# Altium integrated library Altera Cyclone IV GX update.IntLib: 117 symbols (part 26 of 38)
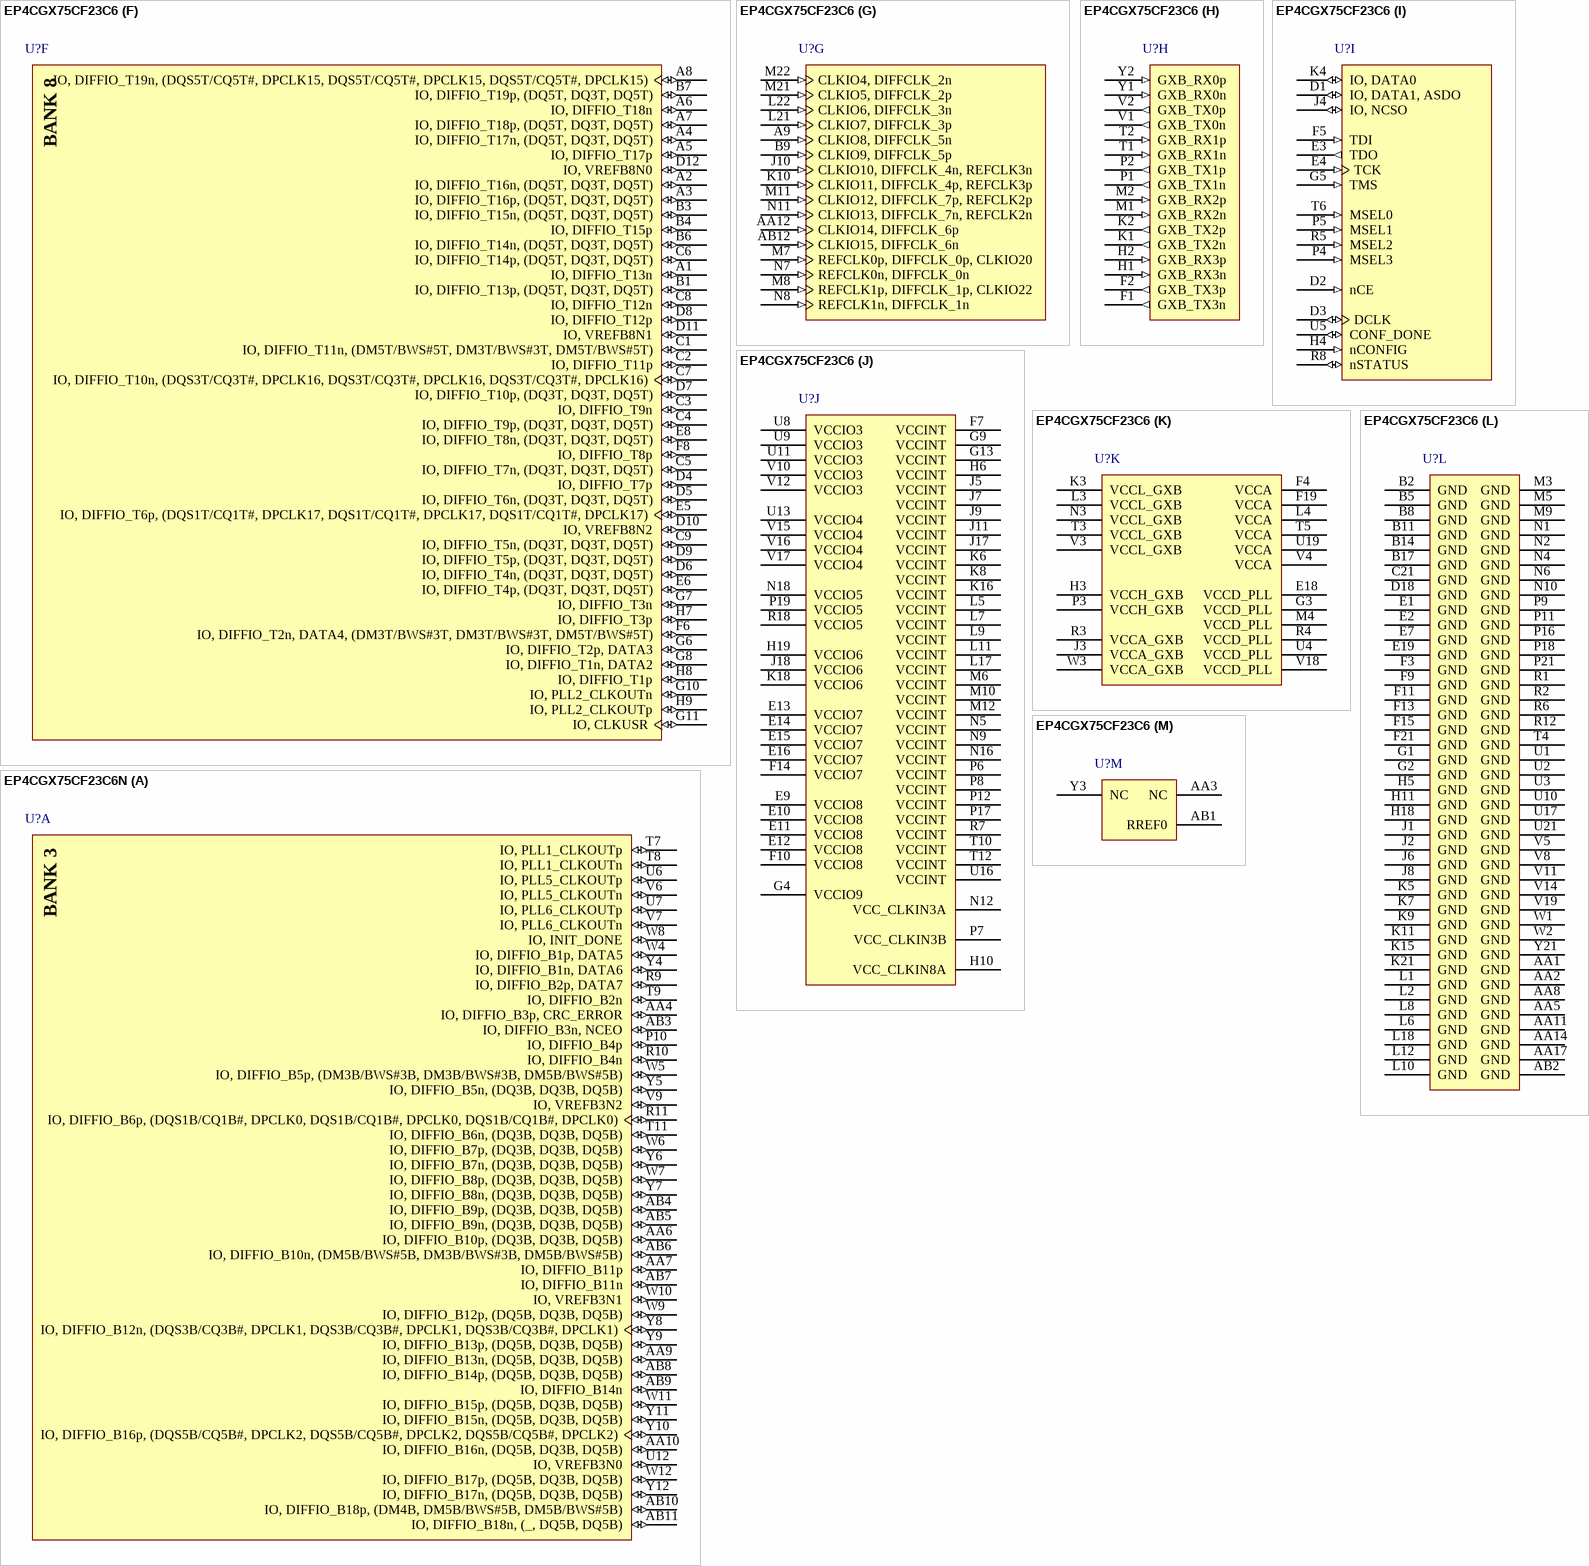
[diagram p264: symbols EP4CGX75CF23C6 to EP4CGX75CF23C6N]

## EP4CGX75CF23C6
designator U?
Cyclone IV Family FPGA, 1.2 V Core, 290 I/O Pins, 6 PLLs, 4 High-Speed Transceivers, 484-Pin FBGA, Speed Grade 6, Commercial Grade; Manufacturer: Altera; Device Group: EP4CGX75; GPIO: 290; Logic Elements (LE) (K): 73.92; NexusDeviceID: EP4CGX75CF23C6; Speed Grade: 6; DatasheetVersion: Rev. 1.8; PackageVersion: Rev. 2.0, 12/2012; PackageReference: FBGA484_A-240; PackageDescription: 484-Pin FineLine Ball-Grid Array (FBGA), Body 23 x 23 mm, Pitch 1 mm; Supplier 1: Digi-Key; Supplier Part Number 1: EP4CGX75CF23C6-ND; Supplier 2: Mouser; Supplier Part Number 2: 989-EP4CGX75CF23C6; Subcategory: Cyclone IV GX; Voltage Supply: 1.2 V Core; Mounting Technology: Surface Mount; Code_JEDEC: MS-034; PartNumber: EP4CGX75CF23C6; ComponentLink1Description: Manufacturer URL; ComponentLink1URL: http://www.altera.com/; ComponentLink2Description: Datasheet; ComponentLink2URL: http://www.altera.com/literature/hb/cyclone-iv/cyiv-53001.pdf; ComponentLink3Description: Package Specification; ComponentLink3URL: http://www.altera.com/devicepackaging/04R00416-03.pdf; ComponentLink4Description: Device Handbook URL; ComponentLink4URL: http://www.altera.com/literature/hb/cyclone-iv/cyclone4-handbook.pdf; ComponentLink5Description: Device Overview URL; ComponentLink5URL: http://www.altera.com/literature/hb/cyclone-iv/cyiv-51001.pdf; ComponentLink6Description: Device Pin-Out URL; ComponentLink6URL: http://www.altera.com/literature/dp/cyclone-iv/EP4CGX75.xls; ComponentLink7Description: Product URL; ComponentLink7URL: http://www.buyaltera.com/scripts/partsearch.dll?Detail&name=EP4CGX75CF23C6-ND
footprint ALTR-FBGA484_A-240 (BGA, 484-Balls, Body 23x23mm, Pitch 1mm)
part A pins: AA4 IO, DIFFIO_B3p, CRC_ERROR (io), AA6 IO, DIFFIO_B10p, (DQ3B, DQ3B, DQ5B) (io), AA7 IO, DIFFIO_B11p (io), AA9 IO, DIFFIO_B13n, (DQ5B, DQ3B, DQ5B) (io), AA10 IO, DIFFIO_B16n, (DQ5B, DQ3B, DQ5B) (io), AB3 IO, DIFFIO_B3n, NCEO (io), AB4 IO, DIFFIO_B9p, (DQ3B, DQ3B, DQ5B) (io), AB5 IO, DIFFIO_B9n, (DQ3B, DQ3B, DQ5B) (io), AB6 IO, DIFFIO_B10n, (DM5B/BWS#5B, DM3B/BWS#3B, DM5B/BWS#5B) (io), AB7 IO, DIFFIO_B11n (io), AB8 IO, DIFFIO_B14p, (DQ5B, DQ3B, DQ5B) (io), AB9 IO, DIFFIO_B14n (io), AB10 IO, DIFFIO_B18p, (DM4B, DM5B/BWS#5B, DM5B/BWS#5B) (io), AB11 IO, DIFFIO_B18n, (_, DQ5B, DQ5B) (io), P10 IO, DIFFIO_B4p (io), R9 IO, DIFFIO_B2p, DATA7 (io), R10 IO, DIFFIO_B4n (io), R11 IO, DIFFIO_B6p, (DQS1B/CQ1B#, DPCLK0, DQS1B/CQ1B#, DPCLK0, DQS1B/CQ1B#, DPCLK0) (io), T7 IO, PLL1_CLKOUTp (io), T8 IO, PLL1_CLKOUTn (io), T9 IO, DIFFIO_B2n (io), T11 IO, DIFFIO_B6n, (DQ3B, DQ3B, DQ5B) (io), U6 IO, PLL5_CLKOUTp (io), U7 IO, PLL6_CLKOUTp (io), U12 IO, VREFB3N0 (io), V6 IO, PLL5_CLKOUTn (io), V7 IO, PLL6_CLKOUTn (io), V9 IO, VREFB3N2 (io), W4 IO, DIFFIO_B1p, DATA5 (io), W5 IO, DIFFIO_B5p, (DM3B/BWS#3B, DM3B/BWS#3B, DM5B/BWS#5B) (io), W6 IO, DIFFIO_B7p, (DQ3B, DQ3B, DQ5B) (io), W7 IO, DIFFIO_B8p, (DQ3B, DQ3B, DQ5B) (io), W8 IO, INIT_DONE (io), W9 IO, DIFFIO_B12p, (DQ5B, DQ3B, DQ5B) (io), W10 IO, VREFB3N1 (io), W11 IO, DIFFIO_B15p, (DQ5B, DQ3B, DQ5B) (io), W12 IO, DIFFIO_B17p, (DQ5B, DQ3B, DQ5B) (io), Y4 IO, DIFFIO_B1n, DATA6 (io), Y5 IO, DIFFIO_B5n, (DQ3B, DQ3B, DQ5B) (io), Y6 IO, DIFFIO_B7n, (DQ3B, DQ3B, DQ5B) (io), Y7 IO, DIFFIO_B8n, (DQ3B, DQ3B, DQ5B) (io), Y8 IO, DIFFIO_B12n, (DQS3B/CQ3B#, DPCLK1, DQS3B/CQ3B#, DPCLK1, DQS3B/CQ3B#, DPCLK1) (io), Y9 IO, DIFFIO_B13p, (DQ5B, DQ3B, DQ5B) (io), Y10 IO, DIFFIO_B16p, (DQS5B/CQ5B#, DPCLK2, DQS5B/CQ5B#, DPCLK2, DQS5B/CQ5B#, DPCLK2) (io), Y11 IO, DIFFIO_B15n, (DQ5B, DQ3B, DQ5B) (io), Y12 IO, DIFFIO_B17n, (DQ5B, DQ3B, DQ5B) (io)
part B pins: AA13 IO, DIFFIO_B21p (io), AA15 IO, DIFFIO_B27p, (DQS2B/CQ3B, DPCLK4, DQS2B/CQ3B, DPCLK4, DQS2B/CQ3B, DPCLK4) (io), AA16 IO, DIFFIO_B28n, (DQ2B, DQ5B, DQ5B) (io), AA18 IO, DIFFIO_B31n, (DQ2B, DQ5B, DQ5B) (io), AA19 IO, DIFFIO_B33p (io), AA20 IO, DIFFIO_B34p (io), AA21 IO, DIFFIO_B35p (io), AA22 IO, PLL3_CLKOUTp (io), AB13 IO, DIFFIO_B21n (io), AB14 IO, DIFFIO_B22p, (DQ4B, DQ5B, DQ5B) (io), AB15 IO, DIFFIO_B22n, (DQ4B, DQ5B, DQ5B) (io), AB16 IO, DIFFIO_B27n (io), AB17 IO, DIFFIO_B29p (io), AB18 IO, DIFFIO_B29n, (DQ2B, DQ5B, DQ5B) (io), AB19 IO, DIFFIO_B33n (io), AB20 IO, DIFFIO_B34n, (DQS0B/CQ1B, DPCLK5, DQS0B/CQ1B, DPCLK5, DQS0B/CQ1B, DPCLK5) (io), AB21 IO, DIFFIO_B35n, (_, DQ5B, DQ5B) (io), AB22 IO, PLL3_CLKOUTn (io), R13 IO, DIFFIO_B19p, (DQ4B, DQ5B, DQ5B) (io), R14 IO, DIFFIO_B24p (io), R15 IO, DIFFIO_B32p (io), T13 IO, DIFFIO_B19n, (DQS4B/CQ5B, DPCLK3, DQS4B/CQ5B, DPCLK3, DQS4B/CQ5B, DPCLK3) (io), T14 IO, DIFFIO_B24n (io), T15 IO, DIFFIO_B32n (io), T16 IO, VREFB4N0 (io), U14 IO, DIFFIO_B26p (io), U15 IO, DIFFIO_B26n, (DQ2B, DQ5B, DQ5B) (io), V13 IO, VREFB4N2 (io), W13 IO, DIFFIO_B20p, (DQ4B, DQ5B, DQ5B) (io), W14 IO, DIFFIO_B23p, (DQ4B, DQ5B, DQ5B) (io), W15 IO, DIFFIO_B25p, (DQ4B, DQ5B, DQ5B) (io), W16 IO, VREFB4N1 (io), W17 IO, DIFFIO_B30p, (DQ2B, DQ5B, DQ5B) (io), W18 IO, DIFFIO_B36p (io), W19 IO, RUP2 (io), Y13 IO, DIFFIO_B20n, (DQ4B, DQ5B, DQ5B) (io), Y14 IO, DIFFIO_B23n, (DQ4B, DQ5B, DQ5B) (io), Y15 IO, DIFFIO_B25n, (DM2B, DM5B/BWS#5B, DM5B/BWS#5B) (io), Y16 IO, DIFFIO_B28p, (DQ2B, DQ5B, DQ5B) (io), Y17 IO, DIFFIO_B30n (io), Y18 IO, DIFFIO_B31p, (DQ2B, DQ5B, DQ5B) (io), Y19 IO, DIFFIO_B36n, (DQ2B, DQ5B, DQ5B) (io), Y20 IO, RDN2 (io)
part C pins: L13 IO, DIFFIO_R31n (io), L14 IO, DIFFIO_R34p (io), L15 IO, DIFFIO_R34n, (DQ1R, DQ3R, DQ1R) (io), L16 IO, DIFFIO_R27n (io), M13 IO, DIFFIO_R31p, (DQ1R, DQ3R, DQ1R) (io), M14 IO, DIFFIO_R35n (io), M15 IO, DIFFIO_R36n (io), M16 IO, DIFFIO_R27p (io), M17 IO, DIFFIO_R32n (io), M18 IO, DIFFIO_R26p, (DQ1R, DQ3R, DQ1R) (io), M19 IO, DIFFIO_R26n, (DQ1R, DQ3R, DQ1R) (io), M20 IO, VREFB5N0 (io), N13 IO, DIFFIO_R35p (io), N14 IO, DIFFIO_R36p (io), N15 IO, DIFFIO_R46n (io), N17 IO, DIFFIO_R32p, (DQ1R, DQ3R, DQ1R) (io), N19 IO, DIFFIO_R30p, (DQS1R/CQ1R#, DPCLK8, DQS1R/CQ1R#, DPCLK8, DQS1R/CQ1R#, DPCLK8) (io), N20 IO, DIFFIO_R30n (io), N21 IO, DIFFIO_R29p, (DQ1R, DQ3R, DQ1R) (io), N22 IO, DIFFIO_R29n, (DQ1R, DQ3R, DQ1R) (io), P13 IO, DIFFIO_R44p, DEV_CLRn (io), P14 IO, DIFFIO_R44n, DEV_OE (io), P15 IO, DIFFIO_R46p (io), P20 IO, VREFB5N1 (io), P22 IO, DIFFIO_R33n, (DQ1R, DQ3R, DQ1R) (io), R16 IO, DIFFIO_R49p, (DQS5R/CQ5R#, DPCLK6, DQS5R/CQ5R#, DPCLK6, DQS5R/CQ5R#, DPCLK6) (io), R17 IO, DIFFIO_R49n, (DM3R/BWS#3R, DM3R/BWS#3R, DM1R/BWS#1R) (io), R19 IO, DIFFIO_R41p, (DQ3R, DQ3R, DQ1R) (io), R20 IO, DIFFIO_R39p, (DM1R/BWS#1R, DM3R/BWS#3R, DM1R/BWS#1R) (io), R21 IO, DIFFIO_R39n (io), R22 IO, DIFFIO_R33p (io), T17 IO, RUP3 (io), T18 IO, RDN3 (io), T19 IO, DIFFIO_R42p (io), T20 IO, DIFFIO_R41n, (DQ3R, DQ3R, DQ1R) (io), T21 IO, DIFFIO_R38p, (DQ1R, DQ3R, DQ1R) (io), T22 IO, DIFFIO_R38n (io), U18 IO, VREFB5N2 (io), U20 IO, DIFFIO_R42n, (DQ3R, DQ3R, DQ1R) (io), U22 IO, DIFFIO_R40n (io), V20 IO, DIFFIO_R43p, (DQ3R, DQ3R, DQ1R) (io), V21 IO, DIFFIO_R43n, (DQ3R, DQ3R, DQ1R) (io), V22 IO, DIFFIO_R40p, (DQS3R/CQ3R#, DPCLK7, DQS3R/CQ3R#, DPCLK7, DQS3R/CQ3R#, DPCLK7) (io), W20 IO, DIFFIO_R45p, (DQ3R, DQ3R, DQ1R) (io), W21 IO, DIFFIO_R45n, (DQ3R, DQ3R, DQ1R) (io), W22 IO, DIFFIO_R47n, (DQ3R, DQ3R, DQ1R) (io), Y22 IO, DIFFIO_R47p, (DQ3R, DQ3R, DQ1R) (io)
part D pins: A20 IO, DIFFIO_R7n (io), A21 IO, DIFFIO_R11p, (DQ2R, DQ1R, DQ1R) (io), A22 IO, DIFFIO_R11n (io), B19 IO, DIFFIO_R7p, (DQ2R, DQ1R, DQ1R) (io), B20 IO, DIFFIO_R9p, (DQ2R, DQ1R, DQ1R) (io), B21 IO, DIFFIO_R9n, (DQS2R/CQ3R, DPCLK10, DQS2R/CQ3R, DPCLK10, DQS2R/CQ3R, DPCLK10) (io), B22 IO, DIFFIO_R12n (io), C19 IO, DIFFIO_R8p, (DQ2R, DQ1R, DQ1R) (io), C20 IO, DIFFIO_R8n (io), C22 IO, DIFFIO_R12p, (_, DQ1R, DQ1R) (io), D19 IO, DIFFIO_R10p, (DQ2R, DQ1R, DQ1R) (io), D20 IO, DIFFIO_R10n (io), D21 IO, DIFFIO_R14p, (DM2R, DM1R/BWS#1R, DM1R/BWS#1R) (io), D22 IO, DIFFIO_R14n (io), E20 IO, DIFFIO_R17n (io), E21 IO, DIFFIO_R15p, (_, DQ1R, DQ1R) (io), E22 IO, DIFFIO_R15n (io), F18 IO, DIFFIO_R1p, (DQ2R, DQ1R, DQ1R) (io), F20 IO, DIFFIO_R17p (io), F22 IO, DIFFIO_R16n, (DQ0R, DQ1R, DQ1R) (io), G16 IO, DIFFIO_R2p, (DQS4R/CQ5R, DPCLK11, DQS4R/CQ5R, DPCLK11, DQS4R/CQ5R, DPCLK11) (io), G17 IO, DIFFIO_R2n, (DQ2R, DQ1R, DQ1R) (io), G18 IO, VREFB6N0 (io), G19 IO, DIFFIO_R1n, (DQ2R, DQ1R, DQ1R) (io), G20 IO, DIFFIO_R18p, (DQ0R, DQ1R, DQ1R) (io), G21 IO, DIFFIO_R18n (io), G22 IO, DIFFIO_R16p (io), H15 IO, DIFFIO_R3p (io), H16 IO, DIFFIO_R3n (io), H17 IO, VREFB6N1 (io), H20 IO, DIFFIO_R19p, (DQ0R, DQ1R, DQ1R) (io), H21 IO, DIFFIO_R19n (io), H22 IO, DIFFIO_R22n, (DQS0R/CQ1R, DPCLK9, DQS0R/CQ1R, DPCLK9, DQS0R/CQ1R, DPCLK9) (io), J15 IO, VREFB6N2 (io), J16 IO, DIFFIO_R6p (io), J19 IO, DIFFIO_R23p, (DQ0R, DQ1R, DQ1R) (io), J20 IO, DIFFIO_R23n, (DQ0R, DQ1R, DQ1R) (io), J21 IO, DIFFIO_R22p (io), J22 IO, DIFFIO_R21n (io), K13 IO, DIFFIO_R4p (io), K14 IO, DIFFIO_R4n (io), K17 IO, DIFFIO_R6n (io), K19 IO, DIFFIO_R20p, (DQ0R, DQ1R, DQ1R) (io), K20 IO, DIFFIO_R20n (io), K22 IO, DIFFIO_R21p, (DQ0R, DQ1R, DQ1R) (io), L19 IO, DIFFIO_R25p, (DQ0R, DQ1R, DQ1R) (io), L20 IO, DIFFIO_R25n, (DM0R, DM1R/BWS#1R, DM1R/BWS#1R) (io)
part E pins: A10 IO, DIFFIO_T21n, (DQ4T, DQ5T, DQ5T) (io), A11 IO, DIFFIO_T22n, (DQ4T, DQ5T, DQ5T) (io), A12 IO, DIFFIO_T22p (io), A13 IO, DIFFIO_T30n (io), A14 IO, DIFFIO_T30p, (_, DQ5T, DQ5T) (io), A15 IO, DIFFIO_T32n, (DQ2T, DQ5T, DQ5T) (io), A16 IO, DIFFIO_T34n, (DQ2T, DQ5T, DQ5T) (io), A17 IO, DIFFIO_T34p (io), A18 IO, DIFFIO_T37n, (DQ2T, DQ5T, DQ5T) (io), A19 IO, DIFFIO_T37p, (DQ2T, DQ5T, DQ5T) (io), B10 IO, DIFFIO_T21p, (DQS4T/CQ5T, DPCLK14, DQS4T/CQ5T, DPCLK14, DQS4T/CQ5T, DPCLK14) (io), B12 IO, DIFFIO_T28n, (DQ4T, DQ5T, DQ5T) (io), B13 IO, DIFFIO_T28p, (DQ4T, DQ5T, DQ5T) (io), B15 IO, DIFFIO_T32p, (DQ2T, DQ5T, DQ5T) (io), B16 IO, DIFFIO_T35n, (DQS0T/CQ1T, DPCLK12, DQS0T/CQ1T, DPCLK12, DQS0T/CQ1T, DPCLK12) (io), B18 IO (io), C10 IO, DIFFIO_T24n, (DQ4T, DQ5T, DQ5T) (io), C11 IO, DIFFIO_T24p (io), C12 IO, DIFFIO_T29n, (DM2T, DM5T/BWS#5T, DM5T/BWS#5T) (io), C13 IO, DIFFIO_T29p (io), C14 IO, DIFFIO_T31n (io), C15 IO, DIFFIO_T33n, (DQ2T, DQ5T, DQ5T) (io), C16 IO, DIFFIO_T35p, (DQ2T, DQ5T, DQ5T) (io), C17 IO, PLL4_CLKOUTn (io), C18 IO, PLL4_CLKOUTp (io), D13 IO, VREFB7N1 (io), D14 IO, DIFFIO_T31p, (DQ2T, DQ5T, DQ5T) (io), D15 IO, DIFFIO_T33p (io), D16 IO, VREFB7N0 (io), D17 IO, DIFFIO_T36n (io), E17 IO, DIFFIO_T36p (io), F12 IO, VREFB7N2 (io), F16 IO, RUP4 (io), F17 IO, RDN4 (io), G12 IO, DIFFIO_T20n, (_, DQ5T, DQ5T) (io), G14 IO, DIFFIO_T27n (io), G15 IO, DIFFIO_T27p, (DQS2T/CQ3T, DPCLK13, DQS2T/CQ3T, DPCLK13, DQS2T/CQ3T, DPCLK13) (io), H12 IO, DIFFIO_T20p, (DM4T, DM5T/BWS#5T, DM5T/BWS#5T) (io), H13 IO, DIFFIO_T23n, (DQ4T, DQ5T, DQ5T) (io), H14 IO, DIFFIO_T26n (io), J12 IO, DIFFIO_T25n (io), J13 IO, DIFFIO_T23p, (DQ4T, DQ5T, DQ5T) (io), J14 IO, DIFFIO_T26p, (DQ4T, DQ5T, DQ5T) (io), K12 IO, DIFFIO_T25p (io)
part F pins: A1 IO, DIFFIO_T13n (io), A2 IO, DIFFIO_T16n, (DQ5T, DQ3T, DQ5T) (io), A3 IO, DIFFIO_T16p, (DQ5T, DQ3T, DQ5T) (io), A4 IO, DIFFIO_T17n, (DQ5T, DQ3T, DQ5T) (io), A5 IO, DIFFIO_T17p (io), A6 IO, DIFFIO_T18n (io), A7 IO, DIFFIO_T18p, (DQ5T, DQ3T, DQ5T) (io), A8 IO, DIFFIO_T19n, (DQS5T/CQ5T#, DPCLK15, DQS5T/CQ5T#, DPCLK15, DQS5T/CQ5T#, DPCLK15) (io), B1 IO, DIFFIO_T13p, (DQ5T, DQ3T, DQ5T) (io), B3 IO, DIFFIO_T15n, (DQ5T, DQ3T, DQ5T) (io), B4 IO, DIFFIO_T15p (io), B6 IO, DIFFIO_T14n, (DQ5T, DQ3T, DQ5T) (io), B7 IO, DIFFIO_T19p, (DQ5T, DQ3T, DQ5T) (io), C1 IO, DIFFIO_T11n, (DM5T/BWS#5T, DM3T/BWS#3T, DM5T/BWS#5T) (io), C2 IO, DIFFIO_T11p (io), C3 IO, DIFFIO_T9n (io), C4 IO, DIFFIO_T9p, (DQ3T, DQ3T, DQ5T) (io), C5 IO, DIFFIO_T7n, (DQ3T, DQ3T, DQ5T) (io), C6 IO, DIFFIO_T14p, (DQ5T, DQ3T, DQ5T) (io), C7 IO, DIFFIO_T10n, (DQS3T/CQ3T#, DPCLK16, DQS3T/CQ3T#, DPCLK16, DQS3T/CQ3T#, DPCLK16) (io), C8 IO, DIFFIO_T12n (io), C9 IO, DIFFIO_T5n, (DQ3T, DQ3T, DQ5T) (io), D4 IO, DIFFIO_T7p (io), D5 IO, DIFFIO_T6n, (DQ3T, DQ3T, DQ5T) (io), D6 IO, DIFFIO_T4n, (DQ3T, DQ3T, DQ5T) (io), D7 IO, DIFFIO_T10p, (DQ3T, DQ3T, DQ5T) (io), D8 IO, DIFFIO_T12p (io), D9 IO, DIFFIO_T5p, (DQ3T, DQ3T, DQ5T) (io), D10 IO, VREFB8N2 (io), D11 IO, VREFB8N1 (io), D12 IO, VREFB8N0 (io), E5 IO, DIFFIO_T6p, (DQS1T/CQ1T#, DPCLK17, DQS1T/CQ1T#, DPCLK17, DQS1T/CQ1T#, DPCLK17) (io), E6 IO, DIFFIO_T4p, (DQ3T, DQ3T, DQ5T) (io), E8 IO, DIFFIO_T8n, (DQ3T, DQ3T, DQ5T) (io), F6 IO, DIFFIO_T2n, DATA4, (DM3T/BWS#3T, DM3T/BWS#3T, DM5T/BWS#5T) (io), F8 IO, DIFFIO_T8p (io), G6 IO, DIFFIO_T2p, DATA3 (io), G7 IO, DIFFIO_T3n (io), G8 IO, DIFFIO_T1n, DATA2 (io), G10 IO, PLL2_CLKOUTn (io), G11 IO, CLKUSR (io), H7 IO, DIFFIO_T3p (io), H8 IO, DIFFIO_T1p (io), H9 IO, PLL2_CLKOUTp (io)
part G pins: A9 CLKIO8, DIFFCLK_5n (in), AA12 CLKIO14, DIFFCLK_6p (in), AB12 CLKIO15, DIFFCLK_6n (in), B9 CLKIO9, DIFFCLK_5p (in), J10 CLKIO10, DIFFCLK_4n, REFCLK3n (in), K10 CLKIO11, DIFFCLK_4p, REFCLK3p (in), L21 CLKIO7, DIFFCLK_3p (in), L22 CLKIO6, DIFFCLK_3n (in), M7 REFCLK0p, DIFFCLK_0p, CLKIO20 (in), M8 REFCLK1p, DIFFCLK_1p, CLKIO22 (in), M11 CLKIO12, DIFFCLK_7p, REFCLK2p (in), M21 CLKIO5, DIFFCLK_2p (in), M22 CLKIO4, DIFFCLK_2n (in), N7 REFCLK0n, DIFFCLK_0n (in), N8 REFCLK1n, DIFFCLK_1n (in), N11 CLKIO13, DIFFCLK_7n, REFCLK2n (in)
part H pins: F1 GXB_TX3n (out), F2 GXB_TX3p (out), H1 GXB_RX3n (in), H2 GXB_RX3p (in), K1 GXB_TX2n (out), K2 GXB_TX2p (out), M1 GXB_RX2n (in), M2 GXB_RX2p (in), P1 GXB_TX1n (out), P2 GXB_TX1p (out), T1 GXB_RX1n (in), T2 GXB_RX1p (in), V1 GXB_TX0n (out), V2 GXB_TX0p (out), Y1 GXB_RX0n (in), Y2 GXB_RX0p (in)
part I pins: D1 IO, DATA1, ASDO (io), D2 nCE (in), D3 DCLK (io), E3 TDO (out), E4 TCK (in), F5 TDI (in), G5 TMS (in), H4 nCONFIG (in), J4 IO, NCSO (io), K4 IO, DATA0 (io), P4 MSEL3 (in), P5 MSEL1 (in), R5 MSEL2 (in), R8 nSTATUS (io), T6 MSEL0 (in), U5 CONF_DONE (io)
part J pins: E9 VCCIO8 (power), E10 VCCIO8 (power), E11 VCCIO8 (power), E12 VCCIO8 (power), E13 VCCIO7 (power), E14 VCCIO7 (power), E15 VCCIO7 (power), E16 VCCIO7 (power), F7 VCCINT (power), F10 VCCIO8 (power), F14 VCCIO7 (power), G4 VCCIO9 (power), G9 VCCINT (power), G13 VCCINT (power), H6 VCCINT (power), H10 VCC_CLKIN8A (power), H19 VCCIO6 (power), J5 VCCINT (power), J7 VCCINT (power), J9 VCCINT (power), J11 VCCINT (power), J17 VCCINT (power), J18 VCCIO6 (power), K6 VCCINT (power), K8 VCCINT (power), K16 VCCINT (power), K18 VCCIO6 (power), L5 VCCINT (power), L7 VCCINT (power), L9 VCCINT (power), L11 VCCINT (power), L17 VCCINT (power), M6 VCCINT (power), M10 VCCINT (power), M12 VCCINT (power), N5 VCCINT (power), N9 VCCINT (power), N12 VCC_CLKIN3A (power), N16 VCCINT (power), N18 VCCIO5 (power), P6 VCCINT (power), P7 VCC_CLKIN3B (power), P8 VCCINT (power), P12 VCCINT (power), P17 VCCINT (power), P19 VCCIO5 (power), R7 VCCINT (power), R18 VCCIO5 (power), T10 VCCINT (power), T12 VCCINT (power), U8 VCCIO3 (power), U9 VCCIO3 (power), U11 VCCIO3 (power), U13 VCCIO4 (power), U16 VCCINT (power), V10 VCCIO3 (power), V12 VCCIO3 (power), V15 VCCIO4 (power), V16 VCCIO4 (power), V17 VCCIO4 (power)
part K pins: E18 VCCD_PLL (power), F4 VCCA (power), F19 VCCA (power), G3 VCCD_PLL (power), H3 VCCH_GXB (power), J3 VCCA_GXB (power), K3 VCCL_GXB (power), L3 VCCL_GXB (power), L4 VCCA (power), M4 VCCD_PLL (power), N3 VCCL_GXB (power), P3 VCCH_GXB (power), R3 VCCA_GXB (power), R4 VCCD_PLL (power), T3 VCCL_GXB (power), T5 VCCA (power), U4 VCCD_PLL (power), U19 VCCA (power), V3 VCCL_GXB (power), V4 VCCA (power), V18 VCCD_PLL (power), W3 VCCA_GXB (power)
part L pins: AA1 GND (power), AA2 GND (power), AA5 GND (power), AA8 GND (power), AA11 GND (power), AA14 GND (power), AA17 GND (power), AB2 GND (power), B2 GND (power), B5 GND (power), B8 GND (power), B11 GND (power), B14 GND (power), B17 GND (power), C21 GND (power), D18 GND (power), E1 GND (power), E2 GND (power), E7 GND (power), E19 GND (power), F3 GND (power), F9 GND (power), F11 GND (power), F13 GND (power), F15 GND (power), F21 GND (power), G1 GND (power), G2 GND (power), H5 GND (power), H11 GND (power), H18 GND (power), J1 GND (power), J2 GND (power), J6 GND (power), J8 GND (power), K5 GND (power), K7 GND (power), K9 GND (power), K11 GND (power), K15 GND (power), K21 GND (power), L1 GND (power), L2 GND (power), L6 GND (power), L8 GND (power), L10 GND (power), L12 GND (power), L18 GND (power), M3 GND (power), M5 GND (power), M9 GND (power), N1 GND (power), N2 GND (power), N4 GND (power), N6 GND (power), N10 GND (power), P9 GND (power), P11 GND (power), P16 GND (power), P18 GND (power), P21 GND (power), R1 GND (power), R2 GND (power), R6 GND (power), R12 GND (power), T4 GND (power), U1 GND (power), U2 GND (power), U3 GND (power), U10 GND (power), U17 GND (power), U21 GND (power), V5 GND (power), V8 GND (power), V11 GND (power), V14 GND (power), V19 GND (power), W1 GND (power), W2 GND (power), Y21 GND (power)
part M pins: AA3 NC, AB1 RREF0, Y3 NC
part A text: BANK 3
part B text: BANK 4
part C text: BANK 5
part D text: BANK 6
part E text: BANK 7
part F text: BANK 8

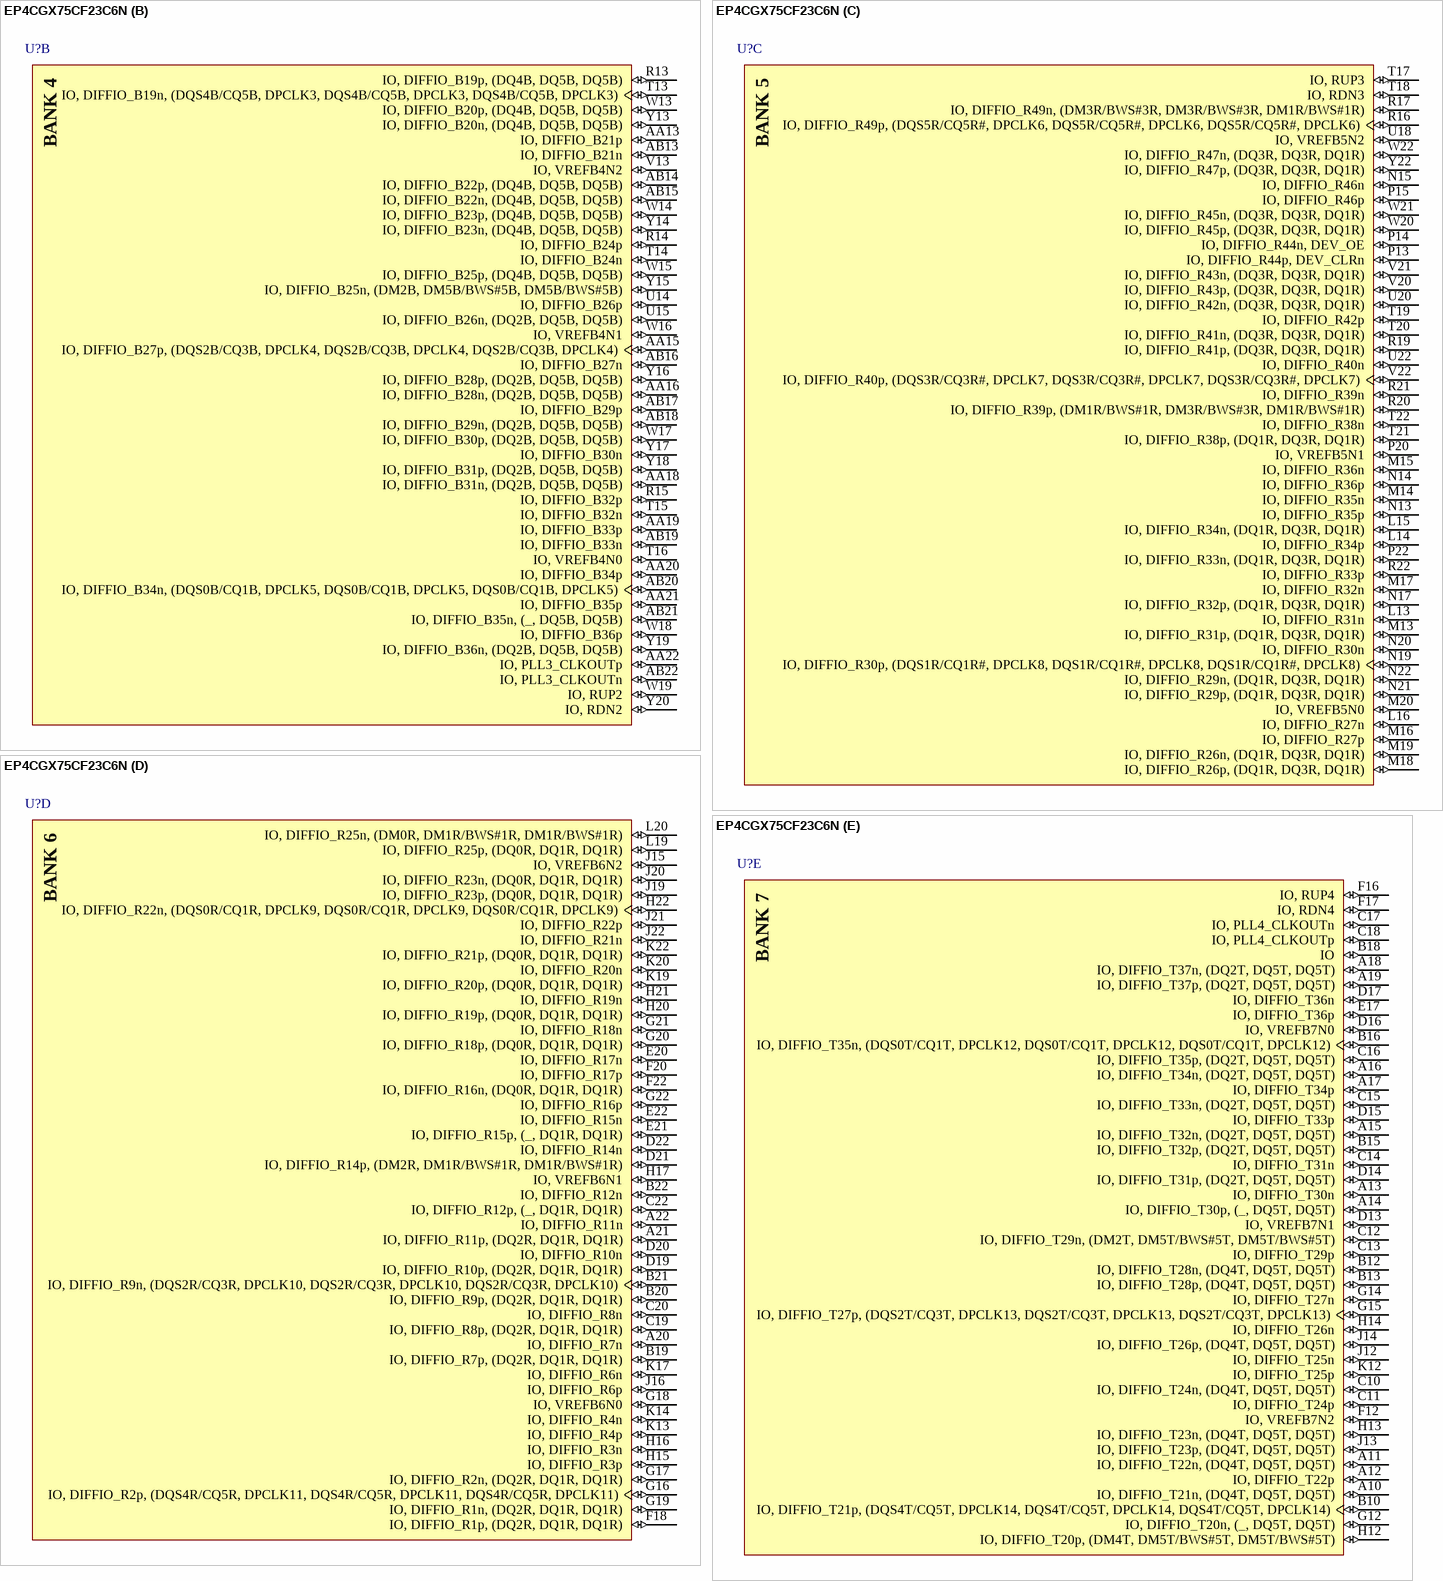
[diagram p95: symbol EP4CGX75CF23C6N]

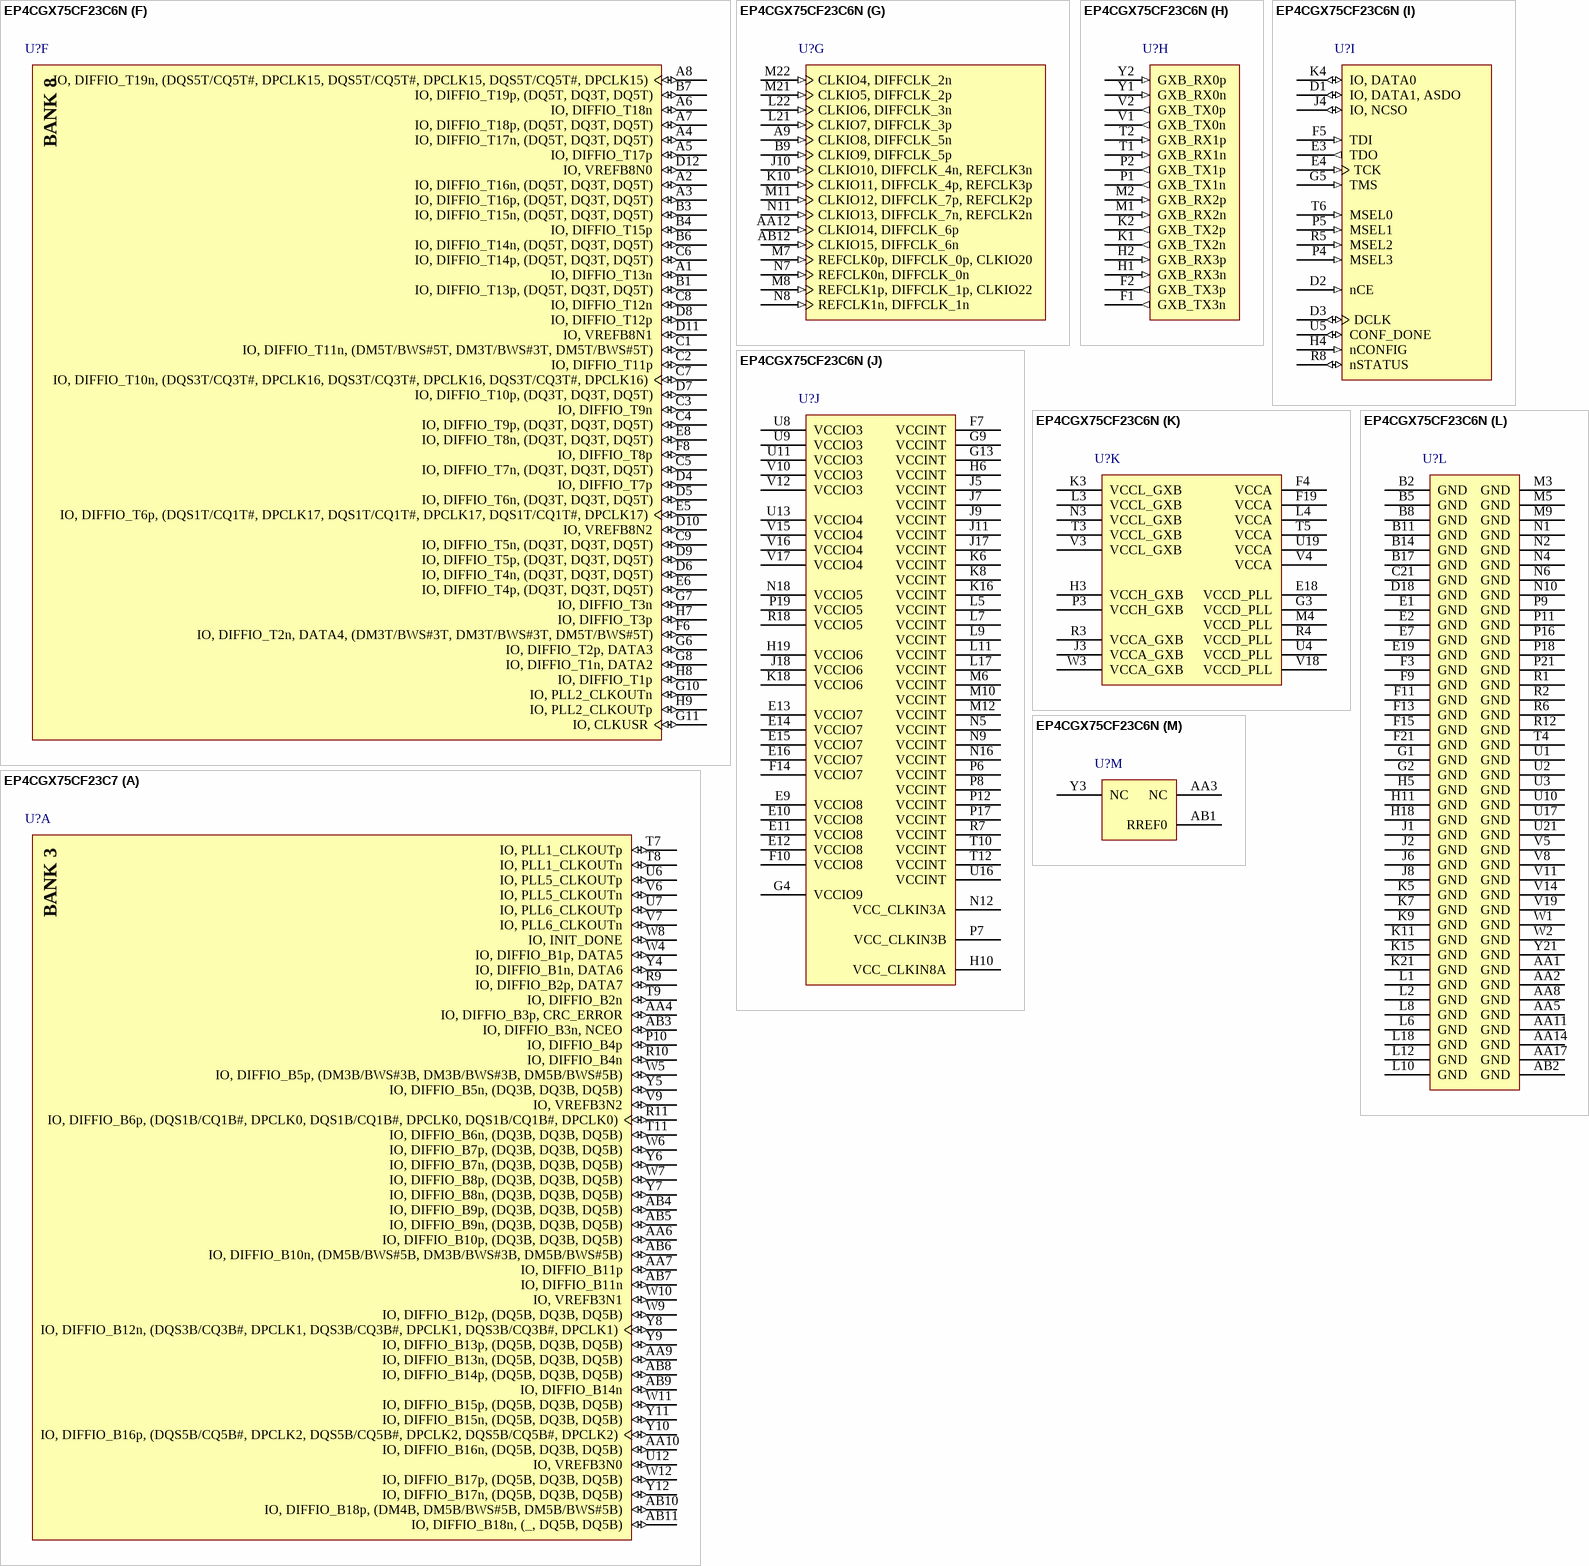
[diagram p96: symbols EP4CGX75CF23C6N to EP4CGX75CF23C7]

## EP4CGX75CF23C6N
designator U?
Cyclone IV Family FPGA, 1.2 V Core, 290 I/O Pins, 6 PLLs, 4 High-Speed Transceivers, 484-Pin FBGA, Speed Grade 6, Commercial Grade, Pb-Free; Manufacturer: Altera; Device Group: EP4CGX75; GPIO: 290; Logic Elements (LE) (K): 73.92; NexusDeviceID: EP4CGX75CF23C6N; Pb-Free: TRUE; Speed Grade: 6; DatasheetVersion: Rev. 1.8; PackageVersion: Rev. 2.0, 12/2012; PackageReference: FBGA484_A-240; PackageDescription: 484-Pin FineLine Ball-Grid Array (FBGA), Body 23 x 23 mm, Pitch 1 mm; Supplier 1: Digi-Key; Supplier Part Number 1: EP4CGX75CF23C6N-ND; Supplier 2: Farnell; Supplier Part Number 2: 2100879; Supplier 3: Mouser; Supplier Part Number 3: 989-EP4CGX75CF23C6N; RoHS: RoHS Compliant; Subcategory: Cyclone IV GX; Voltage Supply: 1.2 V Core; Mounting Technology: Surface Mount; Code_JEDEC: MS-034; PartNumber: EP4CGX75CF23C6N; ComponentLink1Description: Manufacturer URL; ComponentLink1URL: http://www.altera.com/; ComponentLink2Description: Datasheet; ComponentLink2URL: http://www.altera.com/literature/hb/cyclone-iv/cyiv-53001.pdf; ComponentLink3Description: Package Specification; ComponentLink3URL: http://www.altera.com/devicepackaging/04R00416-03.pdf; ComponentLink4Description: Device Handbook URL; ComponentLink4URL: http://www.altera.com/literature/hb/cyclone-iv/cyclone4-handbook.pdf; ComponentLink5Description: Device Overview URL; ComponentLink5URL: http://www.altera.com/literature/hb/cyclone-iv/cyiv-51001.pdf; ComponentLink6Description: Device Pin-Out URL; ComponentLink6URL: http://www.altera.com/literature/dp/cyclone-iv/EP4CGX75.xls; ComponentLink7Description: Product URL; ComponentLink7URL: http://www.buyaltera.com/scripts/partsearch.dll?Detail&name=EP4CGX75CF23C6N-ND
footprint ALTR-FBGA484_A-240 (BGA, 484-Balls, Body 23x23mm, Pitch 1mm)
part A pins: AA4 IO, DIFFIO_B3p, CRC_ERROR (io), AA6 IO, DIFFIO_B10p, (DQ3B, DQ3B, DQ5B) (io), AA7 IO, DIFFIO_B11p (io), AA9 IO, DIFFIO_B13n, (DQ5B, DQ3B, DQ5B) (io), AA10 IO, DIFFIO_B16n, (DQ5B, DQ3B, DQ5B) (io), AB3 IO, DIFFIO_B3n, NCEO (io), AB4 IO, DIFFIO_B9p, (DQ3B, DQ3B, DQ5B) (io), AB5 IO, DIFFIO_B9n, (DQ3B, DQ3B, DQ5B) (io), AB6 IO, DIFFIO_B10n, (DM5B/BWS#5B, DM3B/BWS#3B, DM5B/BWS#5B) (io), AB7 IO, DIFFIO_B11n (io), AB8 IO, DIFFIO_B14p, (DQ5B, DQ3B, DQ5B) (io), AB9 IO, DIFFIO_B14n (io), AB10 IO, DIFFIO_B18p, (DM4B, DM5B/BWS#5B, DM5B/BWS#5B) (io), AB11 IO, DIFFIO_B18n, (_, DQ5B, DQ5B) (io), P10 IO, DIFFIO_B4p (io), R9 IO, DIFFIO_B2p, DATA7 (io), R10 IO, DIFFIO_B4n (io), R11 IO, DIFFIO_B6p, (DQS1B/CQ1B#, DPCLK0, DQS1B/CQ1B#, DPCLK0, DQS1B/CQ1B#, DPCLK0) (io), T7 IO, PLL1_CLKOUTp (io), T8 IO, PLL1_CLKOUTn (io), T9 IO, DIFFIO_B2n (io), T11 IO, DIFFIO_B6n, (DQ3B, DQ3B, DQ5B) (io), U6 IO, PLL5_CLKOUTp (io), U7 IO, PLL6_CLKOUTp (io), U12 IO, VREFB3N0 (io), V6 IO, PLL5_CLKOUTn (io), V7 IO, PLL6_CLKOUTn (io), V9 IO, VREFB3N2 (io), W4 IO, DIFFIO_B1p, DATA5 (io), W5 IO, DIFFIO_B5p, (DM3B/BWS#3B, DM3B/BWS#3B, DM5B/BWS#5B) (io), W6 IO, DIFFIO_B7p, (DQ3B, DQ3B, DQ5B) (io), W7 IO, DIFFIO_B8p, (DQ3B, DQ3B, DQ5B) (io), W8 IO, INIT_DONE (io), W9 IO, DIFFIO_B12p, (DQ5B, DQ3B, DQ5B) (io), W10 IO, VREFB3N1 (io), W11 IO, DIFFIO_B15p, (DQ5B, DQ3B, DQ5B) (io), W12 IO, DIFFIO_B17p, (DQ5B, DQ3B, DQ5B) (io), Y4 IO, DIFFIO_B1n, DATA6 (io), Y5 IO, DIFFIO_B5n, (DQ3B, DQ3B, DQ5B) (io), Y6 IO, DIFFIO_B7n, (DQ3B, DQ3B, DQ5B) (io), Y7 IO, DIFFIO_B8n, (DQ3B, DQ3B, DQ5B) (io), Y8 IO, DIFFIO_B12n, (DQS3B/CQ3B#, DPCLK1, DQS3B/CQ3B#, DPCLK1, DQS3B/CQ3B#, DPCLK1) (io), Y9 IO, DIFFIO_B13p, (DQ5B, DQ3B, DQ5B) (io), Y10 IO, DIFFIO_B16p, (DQS5B/CQ5B#, DPCLK2, DQS5B/CQ5B#, DPCLK2, DQS5B/CQ5B#, DPCLK2) (io), Y11 IO, DIFFIO_B15n, (DQ5B, DQ3B, DQ5B) (io), Y12 IO, DIFFIO_B17n, (DQ5B, DQ3B, DQ5B) (io)
part B pins: AA13 IO, DIFFIO_B21p (io), AA15 IO, DIFFIO_B27p, (DQS2B/CQ3B, DPCLK4, DQS2B/CQ3B, DPCLK4, DQS2B/CQ3B, DPCLK4) (io), AA16 IO, DIFFIO_B28n, (DQ2B, DQ5B, DQ5B) (io), AA18 IO, DIFFIO_B31n, (DQ2B, DQ5B, DQ5B) (io), AA19 IO, DIFFIO_B33p (io), AA20 IO, DIFFIO_B34p (io), AA21 IO, DIFFIO_B35p (io), AA22 IO, PLL3_CLKOUTp (io), AB13 IO, DIFFIO_B21n (io), AB14 IO, DIFFIO_B22p, (DQ4B, DQ5B, DQ5B) (io), AB15 IO, DIFFIO_B22n, (DQ4B, DQ5B, DQ5B) (io), AB16 IO, DIFFIO_B27n (io), AB17 IO, DIFFIO_B29p (io), AB18 IO, DIFFIO_B29n, (DQ2B, DQ5B, DQ5B) (io), AB19 IO, DIFFIO_B33n (io), AB20 IO, DIFFIO_B34n, (DQS0B/CQ1B, DPCLK5, DQS0B/CQ1B, DPCLK5, DQS0B/CQ1B, DPCLK5) (io), AB21 IO, DIFFIO_B35n, (_, DQ5B, DQ5B) (io), AB22 IO, PLL3_CLKOUTn (io), R13 IO, DIFFIO_B19p, (DQ4B, DQ5B, DQ5B) (io), R14 IO, DIFFIO_B24p (io), R15 IO, DIFFIO_B32p (io), T13 IO, DIFFIO_B19n, (DQS4B/CQ5B, DPCLK3, DQS4B/CQ5B, DPCLK3, DQS4B/CQ5B, DPCLK3) (io), T14 IO, DIFFIO_B24n (io), T15 IO, DIFFIO_B32n (io), T16 IO, VREFB4N0 (io), U14 IO, DIFFIO_B26p (io), U15 IO, DIFFIO_B26n, (DQ2B, DQ5B, DQ5B) (io), V13 IO, VREFB4N2 (io), W13 IO, DIFFIO_B20p, (DQ4B, DQ5B, DQ5B) (io), W14 IO, DIFFIO_B23p, (DQ4B, DQ5B, DQ5B) (io), W15 IO, DIFFIO_B25p, (DQ4B, DQ5B, DQ5B) (io), W16 IO, VREFB4N1 (io), W17 IO, DIFFIO_B30p, (DQ2B, DQ5B, DQ5B) (io), W18 IO, DIFFIO_B36p (io), W19 IO, RUP2 (io), Y13 IO, DIFFIO_B20n, (DQ4B, DQ5B, DQ5B) (io), Y14 IO, DIFFIO_B23n, (DQ4B, DQ5B, DQ5B) (io), Y15 IO, DIFFIO_B25n, (DM2B, DM5B/BWS#5B, DM5B/BWS#5B) (io), Y16 IO, DIFFIO_B28p, (DQ2B, DQ5B, DQ5B) (io), Y17 IO, DIFFIO_B30n (io), Y18 IO, DIFFIO_B31p, (DQ2B, DQ5B, DQ5B) (io), Y19 IO, DIFFIO_B36n, (DQ2B, DQ5B, DQ5B) (io), Y20 IO, RDN2 (io)
part C pins: L13 IO, DIFFIO_R31n (io), L14 IO, DIFFIO_R34p (io), L15 IO, DIFFIO_R34n, (DQ1R, DQ3R, DQ1R) (io), L16 IO, DIFFIO_R27n (io), M13 IO, DIFFIO_R31p, (DQ1R, DQ3R, DQ1R) (io), M14 IO, DIFFIO_R35n (io), M15 IO, DIFFIO_R36n (io), M16 IO, DIFFIO_R27p (io), M17 IO, DIFFIO_R32n (io), M18 IO, DIFFIO_R26p, (DQ1R, DQ3R, DQ1R) (io), M19 IO, DIFFIO_R26n, (DQ1R, DQ3R, DQ1R) (io), M20 IO, VREFB5N0 (io), N13 IO, DIFFIO_R35p (io), N14 IO, DIFFIO_R36p (io), N15 IO, DIFFIO_R46n (io), N17 IO, DIFFIO_R32p, (DQ1R, DQ3R, DQ1R) (io), N19 IO, DIFFIO_R30p, (DQS1R/CQ1R#, DPCLK8, DQS1R/CQ1R#, DPCLK8, DQS1R/CQ1R#, DPCLK8) (io), N20 IO, DIFFIO_R30n (io), N21 IO, DIFFIO_R29p, (DQ1R, DQ3R, DQ1R) (io), N22 IO, DIFFIO_R29n, (DQ1R, DQ3R, DQ1R) (io), P13 IO, DIFFIO_R44p, DEV_CLRn (io), P14 IO, DIFFIO_R44n, DEV_OE (io), P15 IO, DIFFIO_R46p (io), P20 IO, VREFB5N1 (io), P22 IO, DIFFIO_R33n, (DQ1R, DQ3R, DQ1R) (io), R16 IO, DIFFIO_R49p, (DQS5R/CQ5R#, DPCLK6, DQS5R/CQ5R#, DPCLK6, DQS5R/CQ5R#, DPCLK6) (io), R17 IO, DIFFIO_R49n, (DM3R/BWS#3R, DM3R/BWS#3R, DM1R/BWS#1R) (io), R19 IO, DIFFIO_R41p, (DQ3R, DQ3R, DQ1R) (io), R20 IO, DIFFIO_R39p, (DM1R/BWS#1R, DM3R/BWS#3R, DM1R/BWS#1R) (io), R21 IO, DIFFIO_R39n (io), R22 IO, DIFFIO_R33p (io), T17 IO, RUP3 (io), T18 IO, RDN3 (io), T19 IO, DIFFIO_R42p (io), T20 IO, DIFFIO_R41n, (DQ3R, DQ3R, DQ1R) (io), T21 IO, DIFFIO_R38p, (DQ1R, DQ3R, DQ1R) (io), T22 IO, DIFFIO_R38n (io), U18 IO, VREFB5N2 (io), U20 IO, DIFFIO_R42n, (DQ3R, DQ3R, DQ1R) (io), U22 IO, DIFFIO_R40n (io), V20 IO, DIFFIO_R43p, (DQ3R, DQ3R, DQ1R) (io), V21 IO, DIFFIO_R43n, (DQ3R, DQ3R, DQ1R) (io), V22 IO, DIFFIO_R40p, (DQS3R/CQ3R#, DPCLK7, DQS3R/CQ3R#, DPCLK7, DQS3R/CQ3R#, DPCLK7) (io), W20 IO, DIFFIO_R45p, (DQ3R, DQ3R, DQ1R) (io), W21 IO, DIFFIO_R45n, (DQ3R, DQ3R, DQ1R) (io), W22 IO, DIFFIO_R47n, (DQ3R, DQ3R, DQ1R) (io), Y22 IO, DIFFIO_R47p, (DQ3R, DQ3R, DQ1R) (io)
part D pins: A20 IO, DIFFIO_R7n (io), A21 IO, DIFFIO_R11p, (DQ2R, DQ1R, DQ1R) (io), A22 IO, DIFFIO_R11n (io), B19 IO, DIFFIO_R7p, (DQ2R, DQ1R, DQ1R) (io), B20 IO, DIFFIO_R9p, (DQ2R, DQ1R, DQ1R) (io), B21 IO, DIFFIO_R9n, (DQS2R/CQ3R, DPCLK10, DQS2R/CQ3R, DPCLK10, DQS2R/CQ3R, DPCLK10) (io), B22 IO, DIFFIO_R12n (io), C19 IO, DIFFIO_R8p, (DQ2R, DQ1R, DQ1R) (io), C20 IO, DIFFIO_R8n (io), C22 IO, DIFFIO_R12p, (_, DQ1R, DQ1R) (io), D19 IO, DIFFIO_R10p, (DQ2R, DQ1R, DQ1R) (io), D20 IO, DIFFIO_R10n (io), D21 IO, DIFFIO_R14p, (DM2R, DM1R/BWS#1R, DM1R/BWS#1R) (io), D22 IO, DIFFIO_R14n (io), E20 IO, DIFFIO_R17n (io), E21 IO, DIFFIO_R15p, (_, DQ1R, DQ1R) (io), E22 IO, DIFFIO_R15n (io), F18 IO, DIFFIO_R1p, (DQ2R, DQ1R, DQ1R) (io), F20 IO, DIFFIO_R17p (io), F22 IO, DIFFIO_R16n, (DQ0R, DQ1R, DQ1R) (io), G16 IO, DIFFIO_R2p, (DQS4R/CQ5R, DPCLK11, DQS4R/CQ5R, DPCLK11, DQS4R/CQ5R, DPCLK11) (io), G17 IO, DIFFIO_R2n, (DQ2R, DQ1R, DQ1R) (io), G18 IO, VREFB6N0 (io), G19 IO, DIFFIO_R1n, (DQ2R, DQ1R, DQ1R) (io), G20 IO, DIFFIO_R18p, (DQ0R, DQ1R, DQ1R) (io), G21 IO, DIFFIO_R18n (io), G22 IO, DIFFIO_R16p (io), H15 IO, DIFFIO_R3p (io), H16 IO, DIFFIO_R3n (io), H17 IO, VREFB6N1 (io), H20 IO, DIFFIO_R19p, (DQ0R, DQ1R, DQ1R) (io), H21 IO, DIFFIO_R19n (io), H22 IO, DIFFIO_R22n, (DQS0R/CQ1R, DPCLK9, DQS0R/CQ1R, DPCLK9, DQS0R/CQ1R, DPCLK9) (io), J15 IO, VREFB6N2 (io), J16 IO, DIFFIO_R6p (io), J19 IO, DIFFIO_R23p, (DQ0R, DQ1R, DQ1R) (io), J20 IO, DIFFIO_R23n, (DQ0R, DQ1R, DQ1R) (io), J21 IO, DIFFIO_R22p (io), J22 IO, DIFFIO_R21n (io), K13 IO, DIFFIO_R4p (io), K14 IO, DIFFIO_R4n (io), K17 IO, DIFFIO_R6n (io), K19 IO, DIFFIO_R20p, (DQ0R, DQ1R, DQ1R) (io), K20 IO, DIFFIO_R20n (io), K22 IO, DIFFIO_R21p, (DQ0R, DQ1R, DQ1R) (io), L19 IO, DIFFIO_R25p, (DQ0R, DQ1R, DQ1R) (io), L20 IO, DIFFIO_R25n, (DM0R, DM1R/BWS#1R, DM1R/BWS#1R) (io)
part E pins: A10 IO, DIFFIO_T21n, (DQ4T, DQ5T, DQ5T) (io), A11 IO, DIFFIO_T22n, (DQ4T, DQ5T, DQ5T) (io), A12 IO, DIFFIO_T22p (io), A13 IO, DIFFIO_T30n (io), A14 IO, DIFFIO_T30p, (_, DQ5T, DQ5T) (io), A15 IO, DIFFIO_T32n, (DQ2T, DQ5T, DQ5T) (io), A16 IO, DIFFIO_T34n, (DQ2T, DQ5T, DQ5T) (io), A17 IO, DIFFIO_T34p (io), A18 IO, DIFFIO_T37n, (DQ2T, DQ5T, DQ5T) (io), A19 IO, DIFFIO_T37p, (DQ2T, DQ5T, DQ5T) (io), B10 IO, DIFFIO_T21p, (DQS4T/CQ5T, DPCLK14, DQS4T/CQ5T, DPCLK14, DQS4T/CQ5T, DPCLK14) (io), B12 IO, DIFFIO_T28n, (DQ4T, DQ5T, DQ5T) (io), B13 IO, DIFFIO_T28p, (DQ4T, DQ5T, DQ5T) (io), B15 IO, DIFFIO_T32p, (DQ2T, DQ5T, DQ5T) (io), B16 IO, DIFFIO_T35n, (DQS0T/CQ1T, DPCLK12, DQS0T/CQ1T, DPCLK12, DQS0T/CQ1T, DPCLK12) (io), B18 IO (io), C10 IO, DIFFIO_T24n, (DQ4T, DQ5T, DQ5T) (io), C11 IO, DIFFIO_T24p (io), C12 IO, DIFFIO_T29n, (DM2T, DM5T/BWS#5T, DM5T/BWS#5T) (io), C13 IO, DIFFIO_T29p (io), C14 IO, DIFFIO_T31n (io), C15 IO, DIFFIO_T33n, (DQ2T, DQ5T, DQ5T) (io), C16 IO, DIFFIO_T35p, (DQ2T, DQ5T, DQ5T) (io), C17 IO, PLL4_CLKOUTn (io), C18 IO, PLL4_CLKOUTp (io), D13 IO, VREFB7N1 (io), D14 IO, DIFFIO_T31p, (DQ2T, DQ5T, DQ5T) (io), D15 IO, DIFFIO_T33p (io), D16 IO, VREFB7N0 (io), D17 IO, DIFFIO_T36n (io), E17 IO, DIFFIO_T36p (io), F12 IO, VREFB7N2 (io), F16 IO, RUP4 (io), F17 IO, RDN4 (io), G12 IO, DIFFIO_T20n, (_, DQ5T, DQ5T) (io), G14 IO, DIFFIO_T27n (io), G15 IO, DIFFIO_T27p, (DQS2T/CQ3T, DPCLK13, DQS2T/CQ3T, DPCLK13, DQS2T/CQ3T, DPCLK13) (io), H12 IO, DIFFIO_T20p, (DM4T, DM5T/BWS#5T, DM5T/BWS#5T) (io), H13 IO, DIFFIO_T23n, (DQ4T, DQ5T, DQ5T) (io), H14 IO, DIFFIO_T26n (io), J12 IO, DIFFIO_T25n (io), J13 IO, DIFFIO_T23p, (DQ4T, DQ5T, DQ5T) (io), J14 IO, DIFFIO_T26p, (DQ4T, DQ5T, DQ5T) (io), K12 IO, DIFFIO_T25p (io)
part F pins: A1 IO, DIFFIO_T13n (io), A2 IO, DIFFIO_T16n, (DQ5T, DQ3T, DQ5T) (io), A3 IO, DIFFIO_T16p, (DQ5T, DQ3T, DQ5T) (io), A4 IO, DIFFIO_T17n, (DQ5T, DQ3T, DQ5T) (io), A5 IO, DIFFIO_T17p (io), A6 IO, DIFFIO_T18n (io), A7 IO, DIFFIO_T18p, (DQ5T, DQ3T, DQ5T) (io), A8 IO, DIFFIO_T19n, (DQS5T/CQ5T#, DPCLK15, DQS5T/CQ5T#, DPCLK15, DQS5T/CQ5T#, DPCLK15) (io), B1 IO, DIFFIO_T13p, (DQ5T, DQ3T, DQ5T) (io), B3 IO, DIFFIO_T15n, (DQ5T, DQ3T, DQ5T) (io), B4 IO, DIFFIO_T15p (io), B6 IO, DIFFIO_T14n, (DQ5T, DQ3T, DQ5T) (io), B7 IO, DIFFIO_T19p, (DQ5T, DQ3T, DQ5T) (io), C1 IO, DIFFIO_T11n, (DM5T/BWS#5T, DM3T/BWS#3T, DM5T/BWS#5T) (io), C2 IO, DIFFIO_T11p (io), C3 IO, DIFFIO_T9n (io), C4 IO, DIFFIO_T9p, (DQ3T, DQ3T, DQ5T) (io), C5 IO, DIFFIO_T7n, (DQ3T, DQ3T, DQ5T) (io), C6 IO, DIFFIO_T14p, (DQ5T, DQ3T, DQ5T) (io), C7 IO, DIFFIO_T10n, (DQS3T/CQ3T#, DPCLK16, DQS3T/CQ3T#, DPCLK16, DQS3T/CQ3T#, DPCLK16) (io), C8 IO, DIFFIO_T12n (io), C9 IO, DIFFIO_T5n, (DQ3T, DQ3T, DQ5T) (io), D4 IO, DIFFIO_T7p (io), D5 IO, DIFFIO_T6n, (DQ3T, DQ3T, DQ5T) (io), D6 IO, DIFFIO_T4n, (DQ3T, DQ3T, DQ5T) (io), D7 IO, DIFFIO_T10p, (DQ3T, DQ3T, DQ5T) (io), D8 IO, DIFFIO_T12p (io), D9 IO, DIFFIO_T5p, (DQ3T, DQ3T, DQ5T) (io), D10 IO, VREFB8N2 (io), D11 IO, VREFB8N1 (io), D12 IO, VREFB8N0 (io), E5 IO, DIFFIO_T6p, (DQS1T/CQ1T#, DPCLK17, DQS1T/CQ1T#, DPCLK17, DQS1T/CQ1T#, DPCLK17) (io), E6 IO, DIFFIO_T4p, (DQ3T, DQ3T, DQ5T) (io), E8 IO, DIFFIO_T8n, (DQ3T, DQ3T, DQ5T) (io), F6 IO, DIFFIO_T2n, DATA4, (DM3T/BWS#3T, DM3T/BWS#3T, DM5T/BWS#5T) (io), F8 IO, DIFFIO_T8p (io), G6 IO, DIFFIO_T2p, DATA3 (io), G7 IO, DIFFIO_T3n (io), G8 IO, DIFFIO_T1n, DATA2 (io), G10 IO, PLL2_CLKOUTn (io), G11 IO, CLKUSR (io), H7 IO, DIFFIO_T3p (io), H8 IO, DIFFIO_T1p (io), H9 IO, PLL2_CLKOUTp (io)
part G pins: A9 CLKIO8, DIFFCLK_5n (in), AA12 CLKIO14, DIFFCLK_6p (in), AB12 CLKIO15, DIFFCLK_6n (in), B9 CLKIO9, DIFFCLK_5p (in), J10 CLKIO10, DIFFCLK_4n, REFCLK3n (in), K10 CLKIO11, DIFFCLK_4p, REFCLK3p (in), L21 CLKIO7, DIFFCLK_3p (in), L22 CLKIO6, DIFFCLK_3n (in), M7 REFCLK0p, DIFFCLK_0p, CLKIO20 (in), M8 REFCLK1p, DIFFCLK_1p, CLKIO22 (in), M11 CLKIO12, DIFFCLK_7p, REFCLK2p (in), M21 CLKIO5, DIFFCLK_2p (in), M22 CLKIO4, DIFFCLK_2n (in), N7 REFCLK0n, DIFFCLK_0n (in), N8 REFCLK1n, DIFFCLK_1n (in), N11 CLKIO13, DIFFCLK_7n, REFCLK2n (in)
part H pins: F1 GXB_TX3n (out), F2 GXB_TX3p (out), H1 GXB_RX3n (in), H2 GXB_RX3p (in), K1 GXB_TX2n (out), K2 GXB_TX2p (out), M1 GXB_RX2n (in), M2 GXB_RX2p (in), P1 GXB_TX1n (out), P2 GXB_TX1p (out), T1 GXB_RX1n (in), T2 GXB_RX1p (in), V1 GXB_TX0n (out), V2 GXB_TX0p (out), Y1 GXB_RX0n (in), Y2 GXB_RX0p (in)
part I pins: D1 IO, DATA1, ASDO (io), D2 nCE (in), D3 DCLK (io), E3 TDO (out), E4 TCK (in), F5 TDI (in), G5 TMS (in), H4 nCONFIG (in), J4 IO, NCSO (io), K4 IO, DATA0 (io), P4 MSEL3 (in), P5 MSEL1 (in), R5 MSEL2 (in), R8 nSTATUS (io), T6 MSEL0 (in), U5 CONF_DONE (io)
part J pins: E9 VCCIO8 (power), E10 VCCIO8 (power), E11 VCCIO8 (power), E12 VCCIO8 (power), E13 VCCIO7 (power), E14 VCCIO7 (power), E15 VCCIO7 (power), E16 VCCIO7 (power), F7 VCCINT (power), F10 VCCIO8 (power), F14 VCCIO7 (power), G4 VCCIO9 (power), G9 VCCINT (power), G13 VCCINT (power), H6 VCCINT (power), H10 VCC_CLKIN8A (power), H19 VCCIO6 (power), J5 VCCINT (power), J7 VCCINT (power), J9 VCCINT (power), J11 VCCINT (power), J17 VCCINT (power), J18 VCCIO6 (power), K6 VCCINT (power), K8 VCCINT (power), K16 VCCINT (power), K18 VCCIO6 (power), L5 VCCINT (power), L7 VCCINT (power), L9 VCCINT (power), L11 VCCINT (power), L17 VCCINT (power), M6 VCCINT (power), M10 VCCINT (power), M12 VCCINT (power), N5 VCCINT (power), N9 VCCINT (power), N12 VCC_CLKIN3A (power), N16 VCCINT (power), N18 VCCIO5 (power), P6 VCCINT (power), P7 VCC_CLKIN3B (power), P8 VCCINT (power), P12 VCCINT (power), P17 VCCINT (power), P19 VCCIO5 (power), R7 VCCINT (power), R18 VCCIO5 (power), T10 VCCINT (power), T12 VCCINT (power), U8 VCCIO3 (power), U9 VCCIO3 (power), U11 VCCIO3 (power), U13 VCCIO4 (power), U16 VCCINT (power), V10 VCCIO3 (power), V12 VCCIO3 (power), V15 VCCIO4 (power), V16 VCCIO4 (power), V17 VCCIO4 (power)
part K pins: E18 VCCD_PLL (power), F4 VCCA (power), F19 VCCA (power), G3 VCCD_PLL (power), H3 VCCH_GXB (power), J3 VCCA_GXB (power), K3 VCCL_GXB (power), L3 VCCL_GXB (power), L4 VCCA (power), M4 VCCD_PLL (power), N3 VCCL_GXB (power), P3 VCCH_GXB (power), R3 VCCA_GXB (power), R4 VCCD_PLL (power), T3 VCCL_GXB (power), T5 VCCA (power), U4 VCCD_PLL (power), U19 VCCA (power), V3 VCCL_GXB (power), V4 VCCA (power), V18 VCCD_PLL (power), W3 VCCA_GXB (power)
part L pins: AA1 GND (power), AA2 GND (power), AA5 GND (power), AA8 GND (power), AA11 GND (power), AA14 GND (power), AA17 GND (power), AB2 GND (power), B2 GND (power), B5 GND (power), B8 GND (power), B11 GND (power), B14 GND (power), B17 GND (power), C21 GND (power), D18 GND (power), E1 GND (power), E2 GND (power), E7 GND (power), E19 GND (power), F3 GND (power), F9 GND (power), F11 GND (power), F13 GND (power), F15 GND (power), F21 GND (power), G1 GND (power), G2 GND (power), H5 GND (power), H11 GND (power), H18 GND (power), J1 GND (power), J2 GND (power), J6 GND (power), J8 GND (power), K5 GND (power), K7 GND (power), K9 GND (power), K11 GND (power), K15 GND (power), K21 GND (power), L1 GND (power), L2 GND (power), L6 GND (power), L8 GND (power), L10 GND (power), L12 GND (power), L18 GND (power), M3 GND (power), M5 GND (power), M9 GND (power), N1 GND (power), N2 GND (power), N4 GND (power), N6 GND (power), N10 GND (power), P9 GND (power), P11 GND (power), P16 GND (power), P18 GND (power), P21 GND (power), R1 GND (power), R2 GND (power), R6 GND (power), R12 GND (power), T4 GND (power), U1 GND (power), U2 GND (power), U3 GND (power), U10 GND (power), U17 GND (power), U21 GND (power), V5 GND (power), V8 GND (power), V11 GND (power), V14 GND (power), V19 GND (power), W1 GND (power), W2 GND (power), Y21 GND (power)
part M pins: AA3 NC, AB1 RREF0, Y3 NC
part A text: BANK 3
part B text: BANK 4
part C text: BANK 5
part D text: BANK 6
part E text: BANK 7
part F text: BANK 8

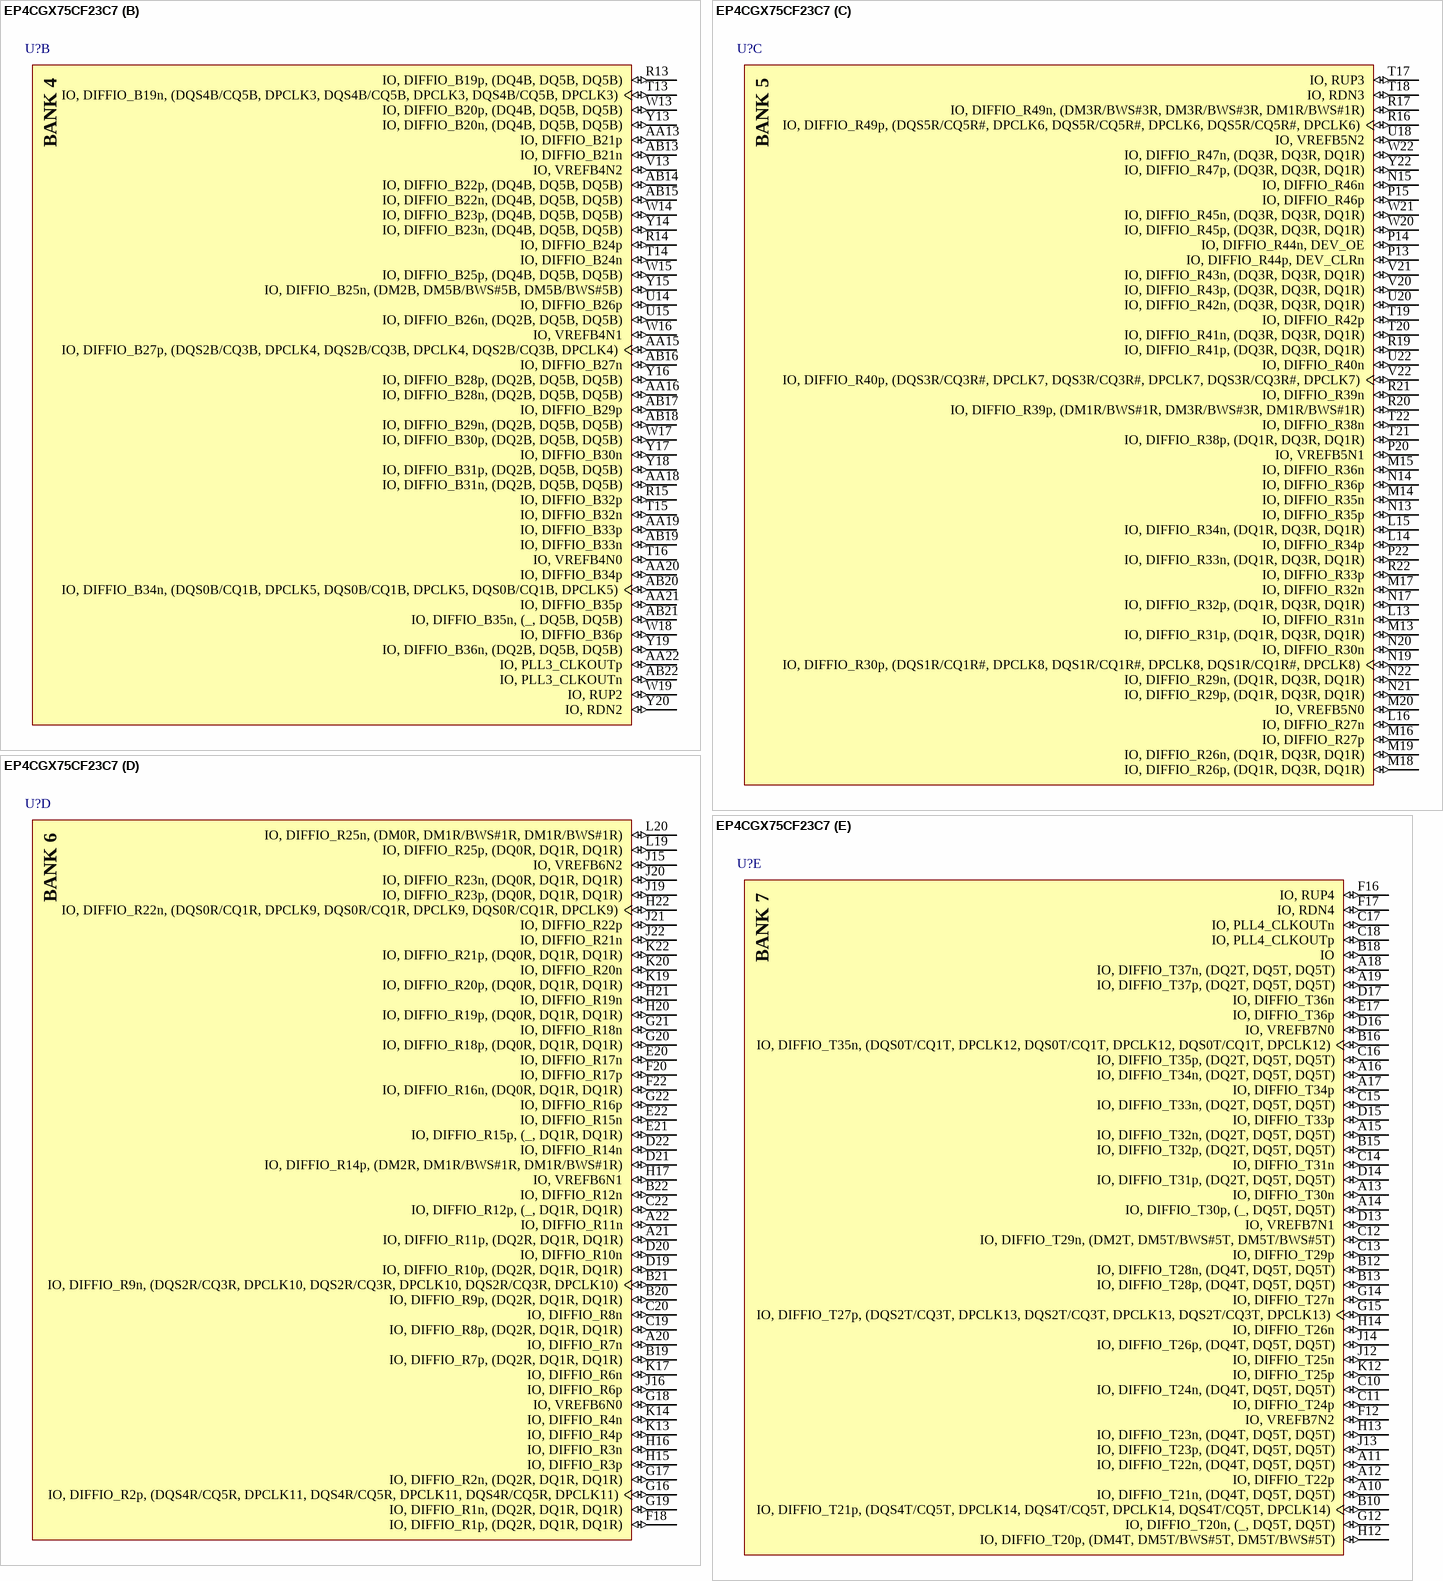
[diagram p97: symbol EP4CGX75CF23C7]

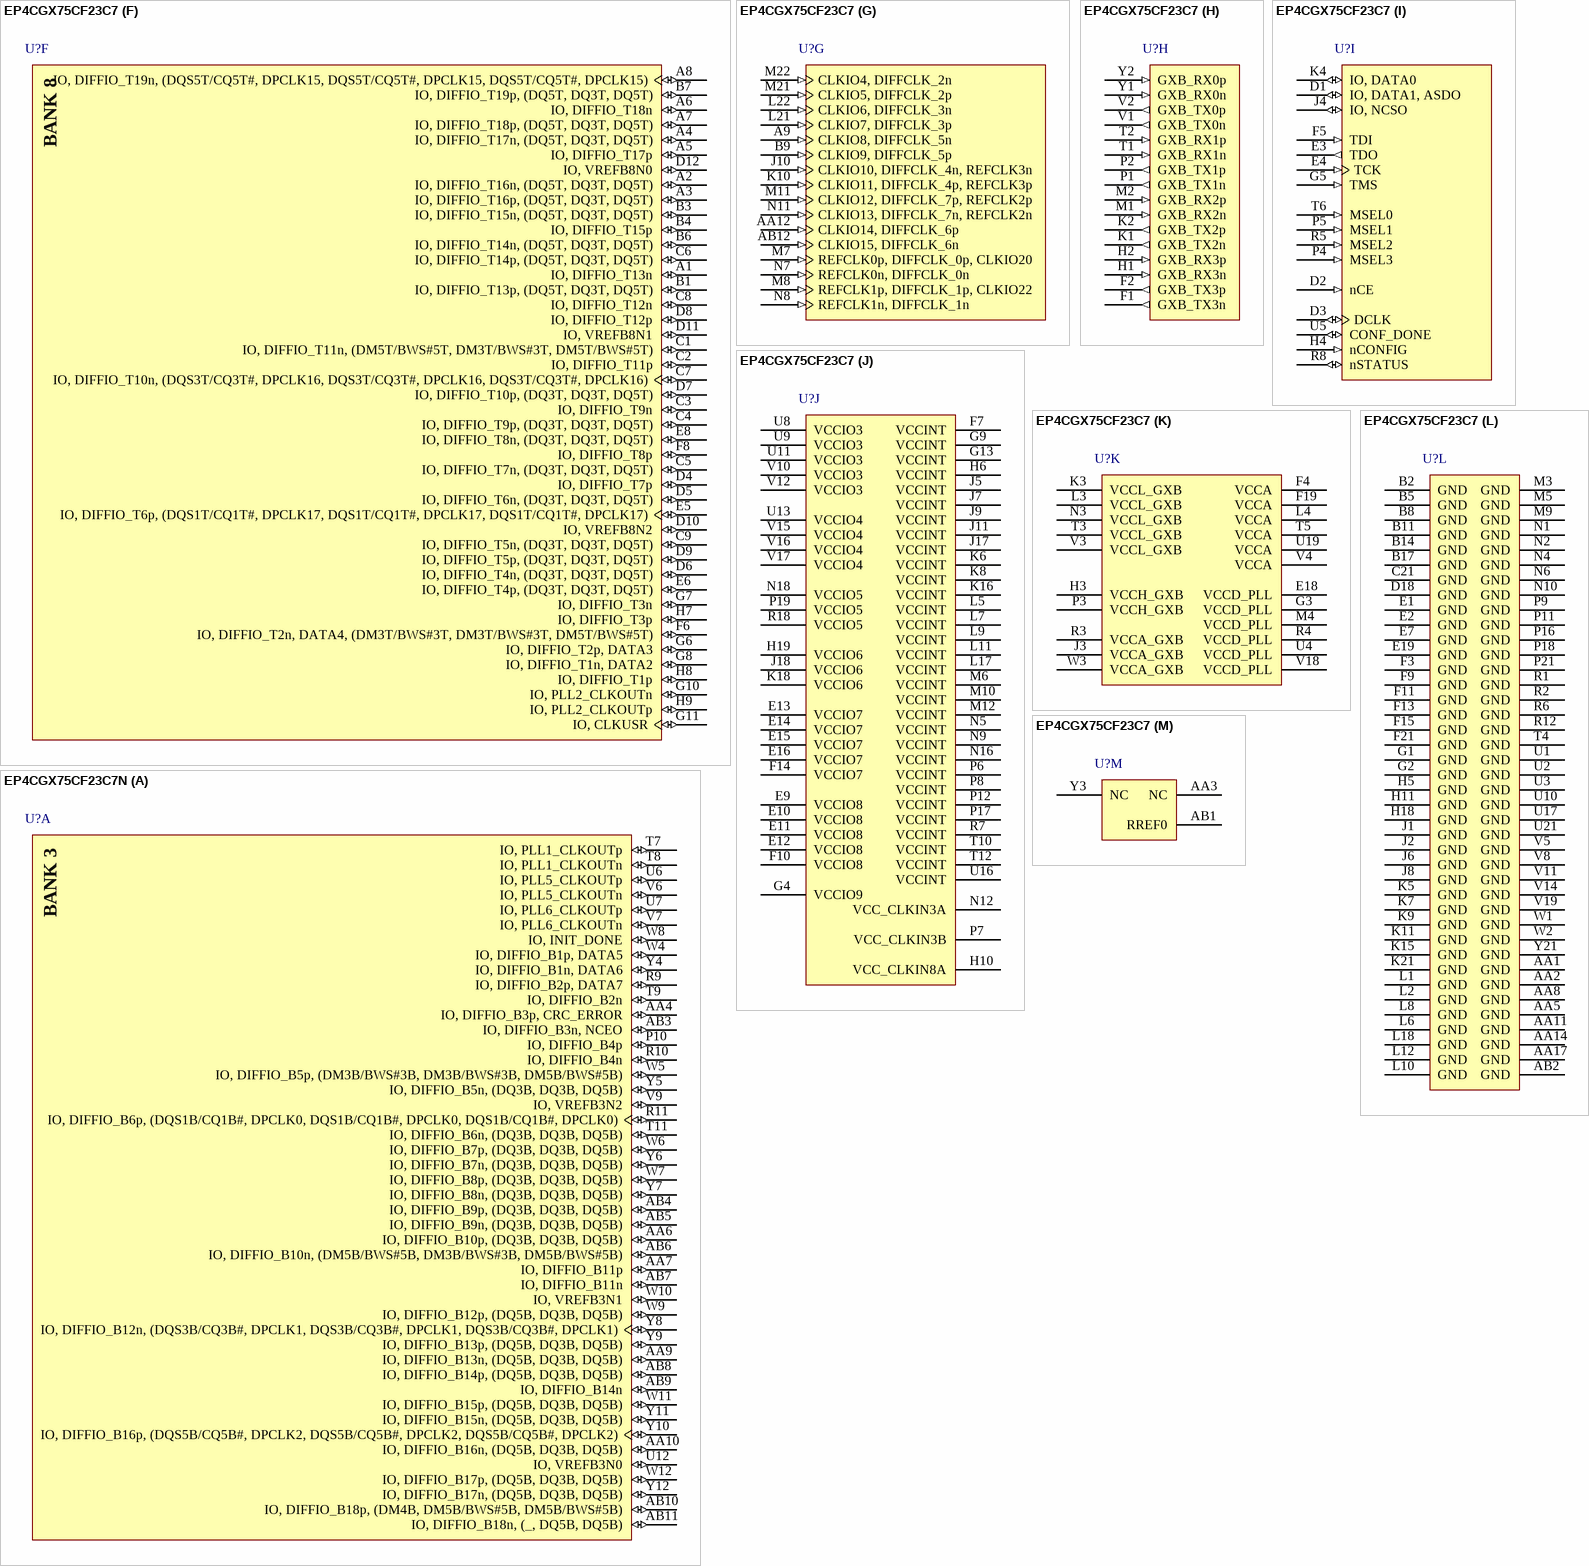
[diagram p98: symbols EP4CGX75CF23C7 to EP4CGX75CF23C7N]